# EAGLE library part 93LC46AT-I/OT (library Microchip_By_element14_Batch_1)
1K Microwire Compatible Serial EEPROM
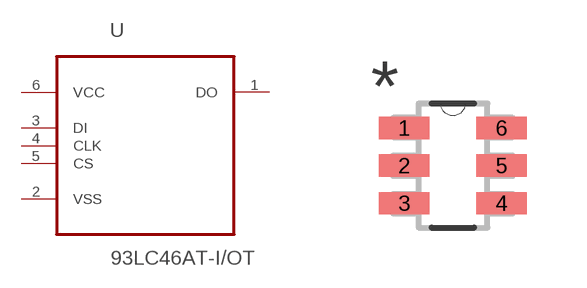
[diagram p225: symbol with the pads of SOT95P280X145-6N; footprint SOT95P280X145-6N]

Designator prefix -

## 93LC46AT-I/OT (MPN: 93LC46AT-I/OT; OC_FARNELL: -; OC_NEWARK: 92C7650; PACKAGE: SOT-6; SUPPLIER: Microchip)  [SOT95P280X145-6N]
1  DO  out
2  VSS  pwr
3  DI  in
4  CLK  in
5  CS  in
6  VCC  pwr

## Footprint SOT95P280X145-6N (pad centres in mm)
smd 1.27 x 0.559: 1 -1.219,0.94; 2 -1.219,0; 3 -1.219,-0.94; 4 1.219,-0.94; 5 1.219,0; 6 1.219,0.94